# Altium schematic symbol library AIS326DQ.SchLib: 1 symbol
Pins are listed as number, name and electrical type; pins without a type are passive.

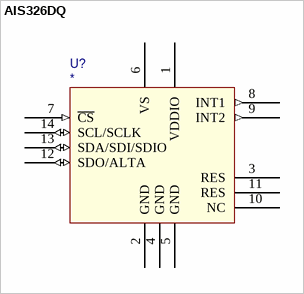
[diagram p0: symbol AIS326DQ]

## AIS326DQ
designator U?
pins: 1 VDDIO (power), 2 GND (power), 3 RES, 4 GND (power), 5 GND (power), 6 VS (power), 7 ~{CS} (in), 8 INT1 (out), 9 INT2 (out), 10 NC, 11 RES, 12 SDO/ALTA (io), 13 SDA/SDI/SDIO (io), 14 SCL/SCLK (io)
1 alternate drawing of the same symbol